# EAGLE library part SMD-SWITCHES-TOP-4BIT(8P-11.8X6.8MM) (library OPL-Switch)
311080003
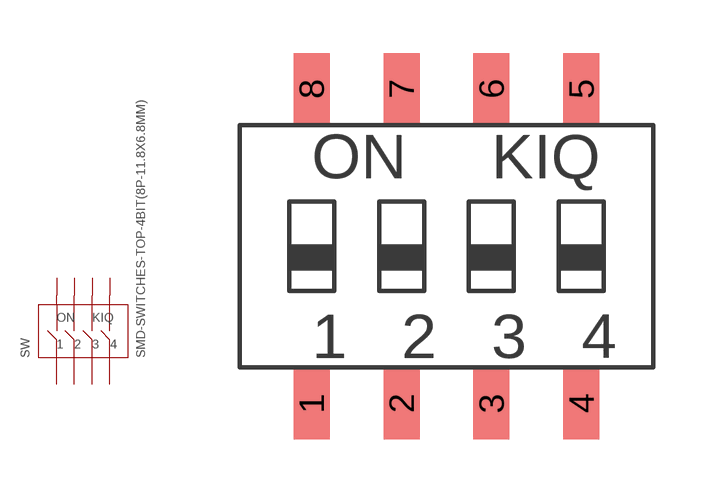
[diagram p3: symbol with the pads of SW8-SMD-11.8X6.8X3.3MM; footprint SW8-SMD-11.8X6.8X3.3MM]

Designator prefix SW

## SMD-SWITCHES-TOP-4BIT(8P-11.8X6.8MM) (MPN: LSM7-629C)  [SW8-SMD-11.8X6.8X3.3MM]
1  1
2  2
3  3
4  4
5  5
6  6
7  7
8  8

## Footprint SW8-SMD-11.8X6.8X3.3MM (pad centres in mm)
smd 1.016 x 2.032: 1 -3.81,-4.445; 2 -1.27,-4.445; 3 1.27,-4.445; 4 3.81,-4.445; 5 3.81,4.445; 6 1.27,4.445; 7 -1.27,4.445; 8 -3.81,4.445